# Altium footprint library LP5912-3.3DRVT.PcbLib: 2 footprints
Each footprint in its own frame and in the unit in brackets; x right, y up, seen from the top. Pads: shape width x height; smd on the part's side, far side on the other; paste and mask are expansions set on the pad; w line width, h text height; cw(c..) or ccw(c..) is an arc to the next point about the centre after c.
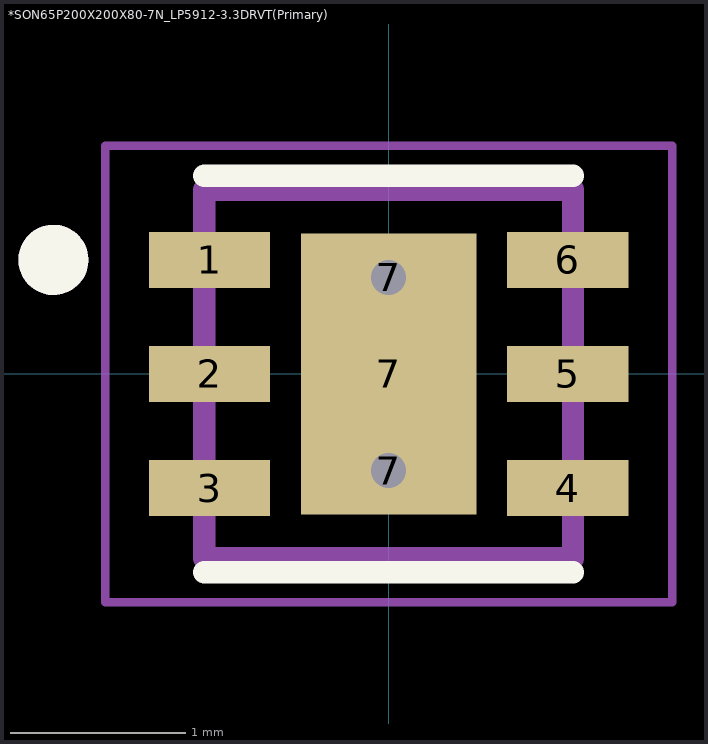
[diagram p0: the footprints below, top view; thin cyan lines are the x and y axes]

## *SON65P200X200X80-7N_LP5912-3.3DRVT(Primary) [mm]
pads (9):
  rect 0.69x0.32 smd: 1(-1.02,0.65) 2(-1.02,0) 3(-1.02,-0.65) 4(1.02,-0.65) 5(1.02,0) 6(1.02,0.65)
  round 0.4 hole 0.2: 7(0,-0.55) 7(0,0.55)
  rect 1x1.6 smd: 7(0,0)
Top Overlay:
  circle w0.2: c-1.91,0.65 r0.1
  lines w0.127: -1.05,-1.13 1.05,-1.13 ; -1.05,1.13 1.05,1.13
Top Paste:
  region: -0.5,0.8 0.5,0.8 0.5,0.1 -0.5,0.1
  region: -0.5,-0.1 0.5,-0.1 0.5,-0.8 -0.5,-0.8
Mechanical 4:
  circle w0.2: c-1.91,0.65 r0.1
  circle w0.2: c-1.91,0.65 r0.1
  lines w0.127: -1.05,-1.05 1.05,-1.05 ; -1.05,-1.05 -1.05,1.05 ; -1.05,-1.05 1.05,-1.05 ; -1.05,-1.05 -1.05,1.05 ; -1.05,1.05 1.05,1.05 ; -1.05,1.05 1.05,1.05 ; 1.05,-1.05 1.05,1.05 ; 1.05,-1.05 1.05,1.05
Mechanical 16:
  lines w0.05: -1.615,-1.3 1.615,-1.3 1.615,1.3 -1.615,1.3 -1.615,-1.3

## PCBComponent_1 [mm]